# Altium footprint library PCB - CONNECTOR - AVX - AVX 9296004202806.PCBLIB: 1 footprints
Each footprint in its own frame and in the unit in brackets; x right, y up, seen from the top. Pads: shape width x height; smd on the part's side, far side on the other; paste and mask are expansions set on the pad; w line width, h text height; cw(c..) or ccw(c..) is an arc to the next point about the centre after c.
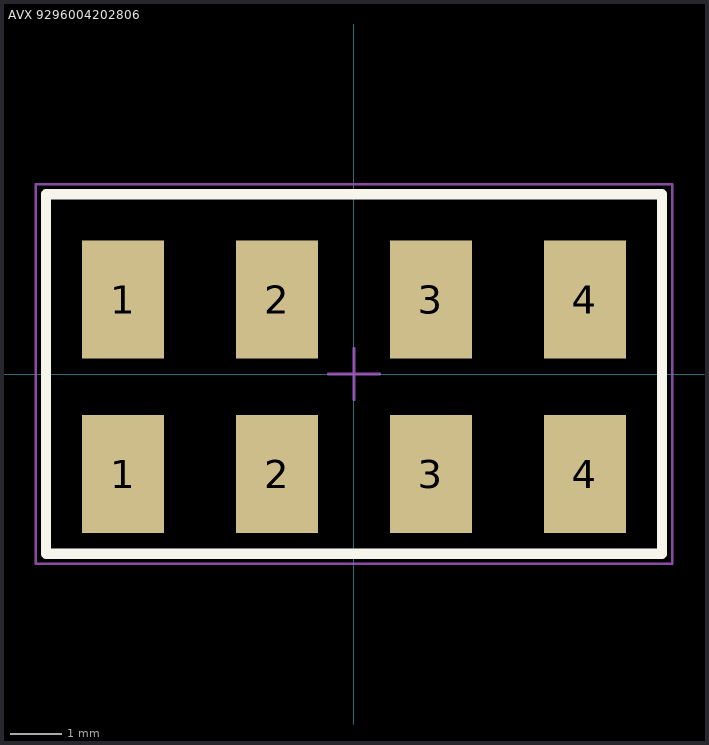
[diagram p0: the footprint, top view; thin cyan lines are the x and y axes]

## AVX 9296004202806 [mm] "POKE-HOME: LOW PROFILE HORIZONTAL"
height 2.55
pads (8):
  rect 1.6x2.3 smd: 1(-4.5,-1.95) 1(-4.5,1.45) 2(-1.5,-1.95) 2(-1.5,1.45) 3(1.5,-1.95) 3(1.5,1.45) 4(4.5,-1.95) 4(4.5,1.45)
Top Overlay:
  lines w0.2: -6,-3.5 -6,3.5 6,3.5 6,-3.5 -6,-3.5
Mechanical 13:
  lines w0.1: -6,-3.5 6,-3.5 6,3.5 -6,3.5 -6,-3.5
Mechanical 15:
  lines w0.05: -0.5,0 0.5,0 ; 0,-0.5 0,0.5 ; -6.2,-3.7 6.2,-3.7 6.2,3.7 -6.2,3.7 -6.2,-3.7
3D body "AVX 9296 9296004202906.step": height 2.55, standoff 0, extent -6,-3.5 6,3.5